# EAGLE library part LTC2361 (library Bulkhead Flight Computer)
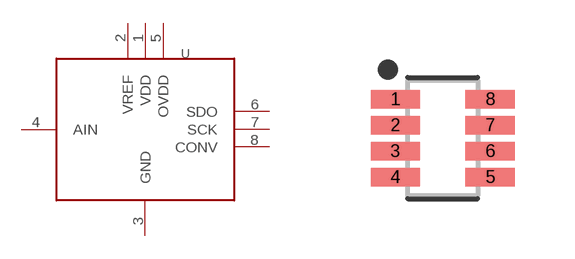
[diagram p12: symbol with the pads of SOT65P280X100-8N; footprint SOT65P280X100-8N]

Designator prefix U

## LTC2361  [SOT65P280X100-8N]
1  VDD  pwr
2  VREF  pwr
3  GND  pas
4  AIN  in
5  OVDD  pwr
6  SDO  out
7  SCK  in
8  CONV  in

## Footprint SOT65P280X100-8N (pad centres in mm)
8-SOT23, 0.65 mm pitch, 2.80 mm span, 2.90 X 1.63 X 1.00 mm body 8-pin SOT23 package with 0.65 mm pitch, 2.80 mm span with body size 2.90 X 1.63 X 1.00 mm
smd 1.237 x 0.459: 1 -1.187,0.975; 2 -1.187,0.325; 3 -1.187,-0.325; 4 -1.187,-0.975; 5 1.187,-0.975; 6 1.187,-0.325; 7 1.187,0.325; 8 1.187,0.975